# Altium schematic symbol library Ferrite.Schlib: 1 symbol
Pins are listed as number, name and electrical type; pins without a type are passive.

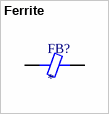
[diagram p0: symbol Ferrite]

## Ferrite
designator FB?
pins: 1, 2